# EAGLE library part DF11-16DP-2DSA-SENSORCARD (library DAC)
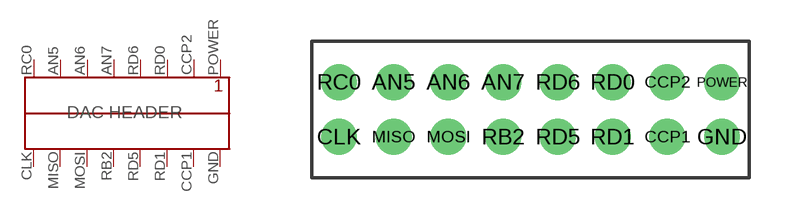
[diagram p3: symbol with the pads of DF11-16DP-2DSA-SENSORCARD; footprint DF11-16DP-2DSA-SENSORCARD]

Designator prefix S

## DF11-16DP-2DSA-SENSORCARD  [DF11-16DP-2DSA-SENSORCARD]
AN5  P$7
AN6  P$6
AN7  P$5
CCP1  P$15
CCP2  P$2
CLK  P$9
GND  P$16
MISO  P$10
MOSI  P$11
POWER  P$1
RB2  P$12
RC0  P$8
RD0  P$3
RD1  P$14
RD5  P$13
RD6  P$4

## Footprint DF11-16DP-2DSA-SENSORCARD (pad centres in mm)
drill 0.8 pad 1.143 round: AN5 -5,1; AN6 -3,1; AN7 -1,1; CCP1 5,-1; CCP2 5,1; CLK -7,-1; GND 7,-1; MISO -5,-1; MOSI -3,-1; POWER 7,1; RB2 -1,-1; RC0 -7,1; RD0 3,1; RD1 3,-1; RD5 1,-1; RD6 1,1